# Altium schematic symbol library Zener.SchLib: 1 symbol
Pins are listed as number, name and electrical type; pins without a type are passive.

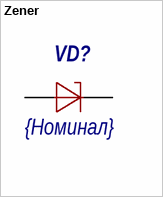
[diagram p0: symbol Zener]

## Zener
designator VD?  value {Номинал}
pins: 1, 2